# Altium footprint library PCB - CAPACITOR - ALUMINIUM - CAP TH ALUM ELEC D30.00mm S10.00mm H37.00mm.PCBLIB: 1 footprints
Each footprint in its own frame and in the unit in brackets; x right, y up, seen from the top. Pads: shape width x height; smd on the part's side, far side on the other; paste and mask are expansions set on the pad; w line width, h text height; cw(c..) or ccw(c..) is an arc to the next point about the centre after c.
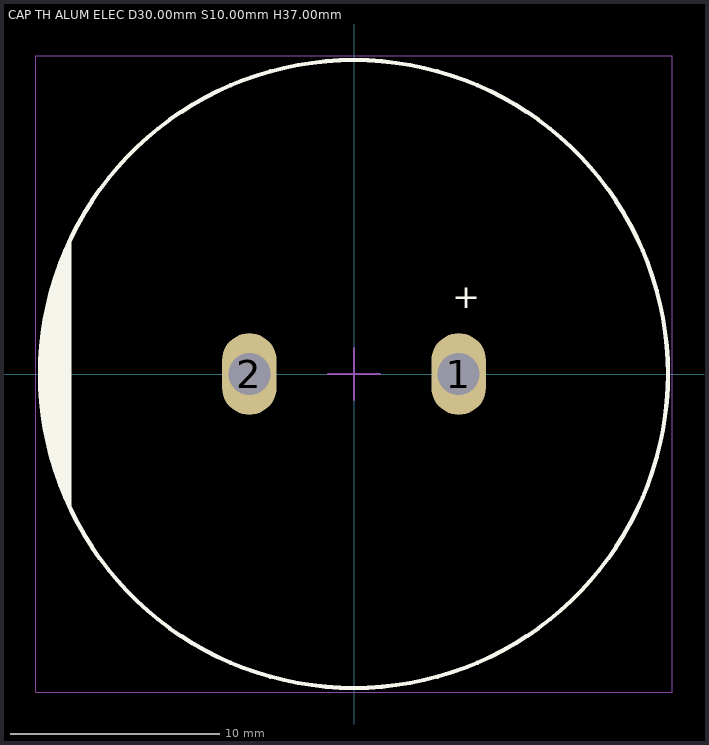
[diagram p0: the footprint, top view; thin cyan lines are the x and y axes]

## CAP TH ALUM ELEC D30.00mm S10.00mm H37.00mm [mm] "30mm Diameter 10mm Lead Spacing Aluminum Electrolytic Capacitors Radial, Can , Snap-In"
height 37
pads (2):
  oval 2.6x3.9 hole 2: 1(5,0) 2(-5,0)
Top Overlay:
  circle w0.2: c0,0 r15
  region: -13.595,-6.339 -13.825,-5.845 -14.213,-4.825 -14.526,-3.779 -14.763,-2.714 -14.921,-1.634 -15,-0.546 -15,0.546 -14.921,1.634 -14.763,2.714 -14.526,3.779 -14.213,4.825 -13.825,5.845 -13.595,6.339
  lines w0.2: -13.595,-6.339 cw(c0,0) -13.595,6.339 -13.595,-6.339
  text "+" at 4.7,2.75 h2
Mechanical 13:
  circle w0.1: c0,0 r15
  lines w0.1: -13.595,-6.339 -13.595,6.339
Mechanical 15:
  lines w0.05: -15.2,-15.2 -15.2,15.2 15.2,15.2 15.2,-15.2 -15.2,-15.2
  lines w0.1: -1.25,0 0,0 ; 0,-1.25 0,0 ; 0,1.25 0,0 ; 1.25,0 0,0
3D body "Cap TH D30.00mm H37.00mm L10.00mm.step": height 37, standoff -2.5, extent -14.71,-15.3 15.3,14.7